# Altium schematic symbol library custom.SchLib: 8 symbols
Pins are listed as number, name and electrical type; pins without a type are passive.

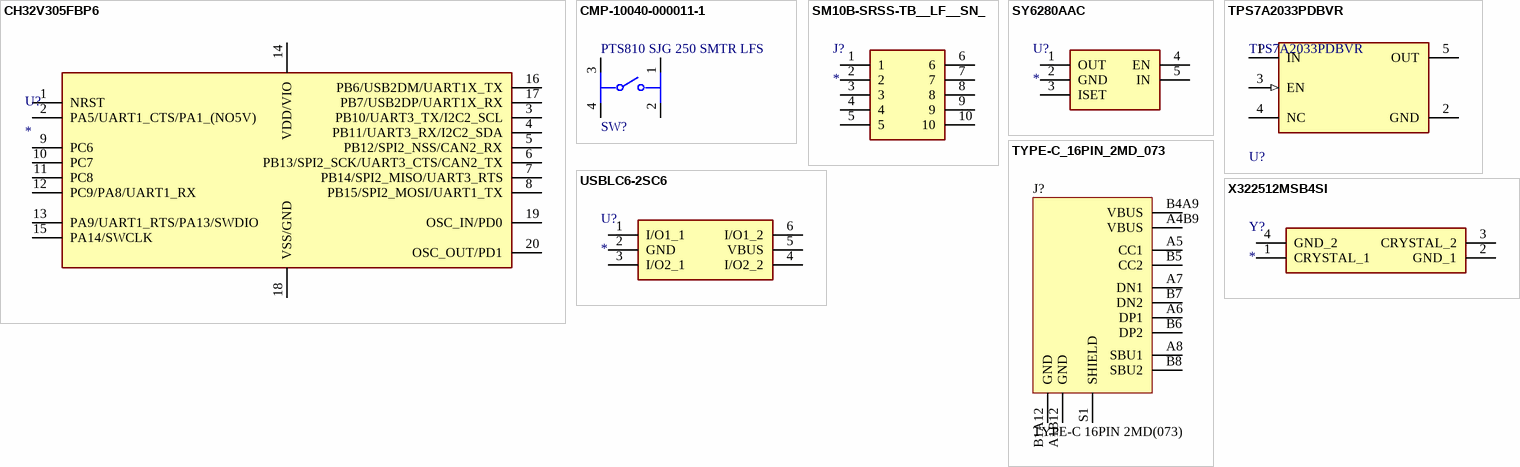
[diagram p0: symbols CH32V305FBP6 to X322512MSB4SI]

## CH32V305FBP6
designator U?
Integrated Circuit; Manufacturer_Name: WCH; Manufacturer_Part_Number: CH32V305FBP6; Datasheet Link: https://lcsc.com/datasheet/lcsc_datasheet_2501141725_WCH-CH32V305FBP6_C5123443.pdf; Height: 1.1mm; LCSC: C5123443
footprint SOP65P640X110-20N
pins: 1 NRST, 2 PA5/UART1_CTS/PA1_(NO5V), 3 PB10/UART3_TX/I2C2_SCL, 4 PB11/UART3_RX/I2C2_SDA, 5 PB12/SPI2_NSS/CAN2_RX, 6 PB13/SPI2_SCK/UART3_CTS/CAN2_TX, 7 PB14/SPI2_MISO/UART3_RTS, 8 PB15/SPI2_MOSI/UART1_TX, 9 PC6, 10 PC7, 11 PC8, 12 PC9/PA8/UART1_RX, 13 PA9/UART1_RTS/PA13/SWDIO, 14 VDD/VIO, 15 PA14/SWCLK, 16 PB6/USB2DM/UART1X_TX, 17 PB7/USB2DP/UART1X_RX, 18 VSS/GND, 19 OSC_IN/PD0, 20 OSC_OUT/PD1

## CMP-10040-000011-1
designator SW?, comment PTS810 SJG 250 SMTR LFS
SWITCH TACTILE SPST-NO 0.05A 16V; Manufacturer: C&K Components; Electromechanical Life: 100000Cycles; Contact Resistance: 500mΩ; Operating Force: 400gf; Current Rating: 50mA; Voltage Rating Dc: 16V; Device Class L2: Switches; Device Class L1: Electromechanical; ComponentLink2URL: https://www.ckswitches.com/media/1476/pts810.pdf; Digikey Description: SWITCH TACTILE SPST-NO 0.05A 16V; RoHS: TRUE; Temperature Range Low: -40°C; Temperature Range High: +85°C; Automotive: No; Category: Switch; ComponentLink2Description: Datasheet; Device Class L3: Tactile Switches; Mouser Description: Switch Tactile N.O. SPST Button J-Bend 0.05A 16VDC 100000Cycles 3.92N SMD T/R; Throw Configuration: SPST-NO; Package: PTS810 SJG 250 SMTR LFS; Height: 2.7mm; Octopart: https://octopart.com/pts810sjg250smtrlfs-c%26k+components-29380277; Manufacturer Part Number: PTS810 SJG 250 SMTR LFS; Temperature: -40°C to +85°C; Lead Free: Yes; LCSC: C5363473
footprint FP-PTS810_SJG_250_SMTR_LF-MFG
pins: 1, 2, 3, 4

## SM10B-SRSS-TB__LF__SN_
designator J?
Connector; Manufacturer_Name: JST (JAPAN SOLDERLESS TERMINALS); Manufacturer_Part_Number: SM10B-SRSS-TB (LF)(SN); Datasheet Link: https://www.jst.co.uk/downloads/series/eSR_SZ_(21-04-14).pdf; Arrow Part Number: SM10B-SRSS-TB (LF)(SN); Arrow Price/Stock: https://www.arrow.com/en/products/sm10b-srss-tb-lf-sn/jst-manufacturing; LCSC: C5340780
footprint SM10B-SRSS-TB
pins: 1, 2, 3, 4, 5, 6, 7, 8, 9, 10

## SY6280AAC
designator U?
Integrated Circuit; Manufacturer_Name: Olimex Ltd.; Manufacturer_Part_Number: SMD IC SY6280AAC; Datasheet Link: https://nl.mouser.com/datasheet/2/306/SY6280AAC-3223659.pdf; Height: 1.4mm; Mouser Part Number: 909-SMDICSY6280AAC; Mouser Price/Stock: https://www.mouser.co.uk/ProductDetail/Olimex-Ltd/SMD-IC-SY6280AAC?qs=9vOqFld9vZUuwGiRcx8i5w%3D%3D; LCSC: C55136
footprint SOT95P285X140-5N
pins: 1 OUT, 2 GND, 3 ISET, 4 EN, 5 IN

## TPS7A2033PDBVR
designator U?
IC REG LINEAR 3.3V 300MA SOT23-5; RoHS Compliant: Yes; LCSC: C2862740
footprint FP-DBV0005A-IPC_B
pins: 1 IN (power), 2 GND (power), 3 EN (in), 4 NC, 5 OUT

## TYPE-C_16PIN_2MD_073
designator J?, comment TYPE-C 16PIN 2MD(073)
USB-C (USB TYPE-C) Receptacle Connector 16 Position Surface Mount, Right Angle; LCSC: C165948
footprint USB-C-SMD_TYPE-C-16PIN-2MD-073 (USB-C (USB TYPE-C) Receptacle Connector 16 Position Surface Mount, Right Angle)
pins: A1B12 GND, A4B9 VBUS, A5 CC1, A6 DP1, A7 DN1, A8 SBU1, B1A12 GND, B4A9 VBUS, B5 CC2, B6 DP2, B7 DN2, B8 SBU2, S1 SHIELD

## USBLC6-2SC6
designator U?
Integrated Circuit; Manufacturer_Name: STMicroelectronics; Manufacturer_Part_Number: USBLC6-2SC6; Datasheet Link: https://www.st.com/resource/en/datasheet/usblc6-2.pdf; Height: 1.45mm; Mouser Part Number: 511-USBLC6-2SC6; Mouser Price/Stock: https://www.mouser.co.uk/ProductDetail/STMicroelectronics/USBLC6-2SC6?qs=po45yt2pPpu%2FhNIlwQdTlg%3D%3D; Arrow Part Number: USBLC6-2SC6; Arrow Price/Stock: https://www.arrow.com/en/products/usblc6-2sc6/stmicroelectronics.html?utm_currency=USD&region=nac; LCSC: C2827654
footprint SOT95P280X145-6N
pins: 1 I/O1_1, 2 GND, 3 I/O2_1, 4 I/O2_2, 5 VBUS, 6 I/O1_2

## X322512MSB4SI
designator Y?
Crystal or Oscillator; Manufacturer_Name: Yangxing Tech; Manufacturer_Part_Number: X322512MSB4SI; Datasheet Link: https://datasheet.lcsc.com/szlcsc/Yangxing-Tech-X322512MSB4SI_C9002.pdf; Height: 0.8mm; LCSC: C9002
footprint X322512MSB4SI
pins: 1 CRYSTAL_1, 2 GND_1, 3 CRYSTAL_2, 4 GND_2